# Altium schematic symbol library Earphone.SchLib: 1 symbol
Pins are listed as number, name and electrical type; pins without a type are passive.

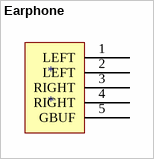
[diagram p0: symbol Earphone]

## Earphone
designator *
pins: 1 LEFT, 2 LEFT, 3 RIGHT, 4 RIGHT, 5 GBUF